# EAGLE library part PINHD-2X10 (library puggleboard)
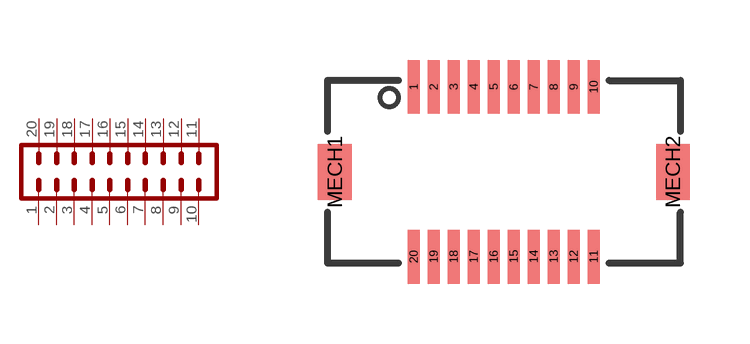
[diagram p25: symbol with the pads of JMD20; footprint JMD20]

Designator prefix -

## PINHD-2X10_JMD  [JMD20]
1  1
2  2
3  3
4  4
5  5
6  6
7  7
8  8
9  9
10  10
11  11
12  12
13  13
14  14
15  15
16  16
17  17
18  18
19  19
20  20

## Footprint JMD20 (pad centres in mm)
smd 0.3 x 1.35: 1 -4.5,2.125; 2 -4,2.125; 3 -3.5,2.125; 4 -3,2.125; 5 -2.5,2.125; 6 -2,2.125; 7 -1.5,2.125; 8 -1,2.125; 9 -0.5,2.125; 10 0,2.125; 11 0,-2.125; 12 -0.5,-2.125; 13 -1,-2.125; 14 -1.5,-2.125; 15 -2,-2.125; 16 -2.5,-2.125; 17 -3,-2.125; 18 -3.5,-2.125; 19 -4,-2.125; 20 -4.5,-2.125
smd 0.85 x 1.4: MECH1 -6.475,0; MECH2 1.975,0